# Altium footprint library TRANS_ETD_29_2.PcbLib: 1 footprints
Each footprint in its own frame and in the unit in brackets; x right, y up, seen from the top. Pads: shape width x height; smd on the part's side, far side on the other; paste and mask are expansions set on the pad; w line width, h text height; cw(c..) or ccw(c..) is an arc to the next point about the centre after c.
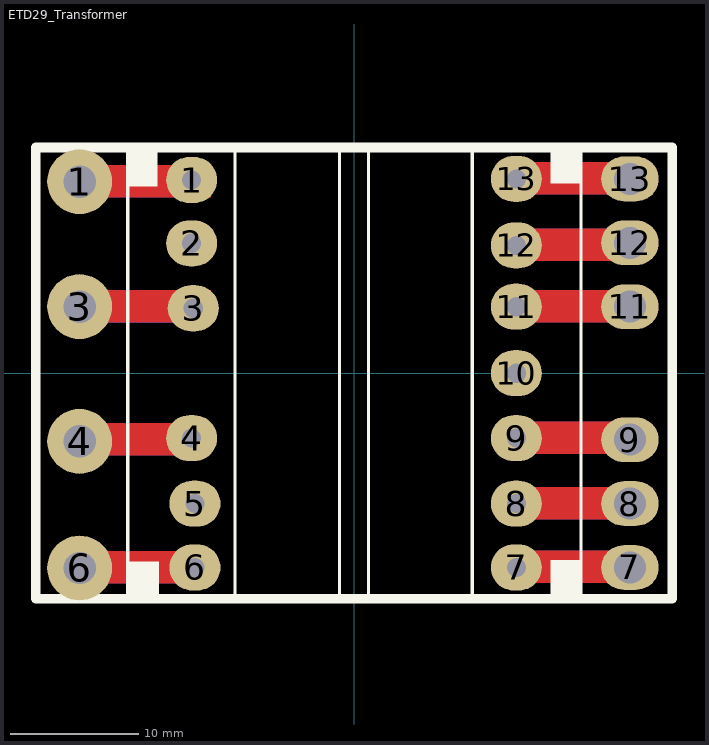
[diagram p0: the footprint, top view; thin cyan lines are the x and y axes]

## ETD29_Transformer [mm]
pads (23):
  round 5.08 hole 2.54: 1(-21.463,14.986) 3(-21.463,5.207) 4(-21.463,-5.334) 6(-21.463,-15.24)
  oval 4x3.6 hole 1.5: 1(-12.7,15.113) 2(-12.7,10.16) 3(-12.573,5.08) 4(-12.7,-5.08) 5(-12.446,-10.2) 6(-12.446,-15.2) 7(12.7,-15.2) 8(12.7,-10.2) 9(12.7,-5.08) 10(12.7,0) 11(12.7,5.2) 12(12.7,10) 13(12.7,15.2)
  oval 4.5x3.5 hole 2.5: 7(21.59,-15.2) 8(21.59,-10.2) 9(21.59,-5.2) 11(21.59,5.2) 12(21.59,10.2) 13(21.59,15.2)
Top Layer:
  rectangle: 11.303,13.97 22.987,16.51
  rectangle: 11.303,8.77 22.987,11.31
  rectangle: 11.303,3.97 22.987,6.51
  rectangle: 11.303,-6.31 22.987,-3.77
  rectangle: 11.303,-11.43 22.987,-8.89
  rectangle: 11.303,-16.43 22.987,-13.89
  rectangle: -22.86,13.756 -11.176,16.296
  rectangle: -22.86,3.977 -11.176,6.517
  rectangle: -23.241,-6.437 -11.557,-3.897
  rectangle: -22.86,-16.47 -11.176,-13.93
  lines w0.254: -12.446,-14.605 -12.319,-14.478
Bottom Layer:
  rectangle: 11.811,13.97 22.733,16.51
  rectangle: 11.811,8.77 22.733,11.31
  rectangle: 11.811,3.97 22.733,6.51
  rectangle: 11.811,-6.31 22.733,-3.77
  rectangle: 11.811,-11.43 22.733,-8.89
  rectangle: 11.811,-16.43 22.733,-13.89
  rectangle: -22.225,13.756 -11.303,16.296
  rectangle: -22.479,3.937 -11.557,6.477
  rectangle: -22.225,-6.437 -11.303,-3.897
  rectangle: -22.733,-16.47 -11.811,-13.93
Top Overlay:
  rectangle: -17.653,-17.526 -15.24,-14.732
  rectangle: -17.78,14.605 -15.367,17.399
  rectangle: 15.367,14.859 17.78,17.653
  rectangle: 15.367,-17.399 17.78,-14.605
  lines w0.254: -17.691,-17.653 -17.691,17.653 -9.309,17.653 -9.309,-17.653 -17.691,-17.653 ; -1.143,-17.59 1.143,-17.59 1.143,17.59 -1.143,17.59 -1.143,-17.59 ; 9.246,-17.59 9.246,17.59 17.755,17.59 17.755,-17.59 9.246,-17.59
  lines w0.762: -24.892,-17.653 -24.892,17.653 24.892,17.653 24.892,-17.653 -24.892,-17.653
Bottom Overlay:
  lines w0.254: -1.143,-17.59 1.143,-17.59 1.143,17.59 -1.143,17.59 -1.143,-17.59
  lines w0.762: -24.828,-17.653 -24.828,17.653 24.828,17.653 24.828,-17.653 -24.828,-17.653
3D body "User Library-ETD29.STEP": height 24.81, standoff -3.3, extent -17.5,-17.6 17.5,17.6